# Altium footprint library PcbLib2.PcbLib: 1 footprints
Each footprint in its own frame and in the unit in brackets; x right, y up, seen from the top. Pads: shape width x height; smd on the part's side, far side on the other; paste and mask are expansions set on the pad; w line width, h text height; cw(c..) or ccw(c..) is an arc to the next point about the centre after c.
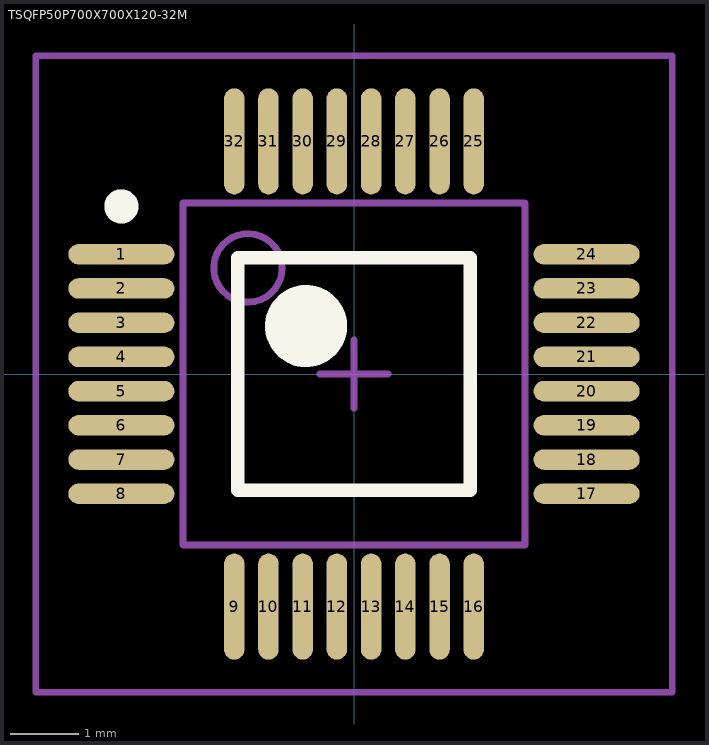
[diagram p0: the footprint, top view; thin cyan lines are the x and y axes]

## TSQFP50P700X700X120-32M [mm] "TSQFP, 32-Leads, Body 7,2x7,2mm (max), Pitch 0,50mm, IPC Low Density"
height 1.2
pads (32):
  oval 1.55x0.3 smd: 1(-3.4,1.75) 2(-3.4,1.25) 3(-3.4,0.75) 4(-3.4,0.25) 5(-3.4,-0.25) 6(-3.4,-0.75) 7(-3.4,-1.25) 8(-3.4,-1.75) 17(3.4,-1.75) 18(3.4,-1.25) 19(3.4,-0.75) 20(3.4,-0.25) 21(3.4,0.25) 22(3.4,0.75) 23(3.4,1.25) 24(3.4,1.75)
  oval 0.3x1.55 smd: 9(-1.75,-3.4) 10(-1.25,-3.4) 11(-0.75,-3.4) 12(-0.25,-3.4) 13(0.25,-3.4) 14(0.75,-3.4) 15(1.25,-3.4) 16(1.75,-3.4) 25(1.75,3.4) 26(1.25,3.4) 27(0.75,3.4) 28(0.25,3.4) 29(-0.25,3.4) 30(-0.75,3.4) 31(-1.25,3.4) 32(-1.75,3.4)
Top Overlay:
  circle w0.6: c-0.7,0.7 r0.3
  circle w0.25: c-3.4,2.45 r0.125
  lines w0.2: -1.7,-1.7 1.7,-1.7 1.7,1.7 -1.7,1.7 -1.7,-1.7
Mechanical 13:
  circle w0.1: c-1.55,1.55 r0.5
  lines w0.1: -2.5,-2.5 2.5,-2.5 2.5,2.5 -2.5,2.5 -2.5,-2.5
Mechanical 15:
  lines w0.1: -0.5,0 0.5,0 ; 0,-0.5 0,0.5 ; -4.65,-4.65 4.65,-4.65 4.65,4.65 -4.65,4.65 -4.65,-4.65
3D body: height 1.2, standoff 0.05, extent -2.5,-2.5 2.5,2.5